# Altium integrated library Linear Technology Power Management uModule Regulators.IntLib: 166 symbols (part 35 of 67)
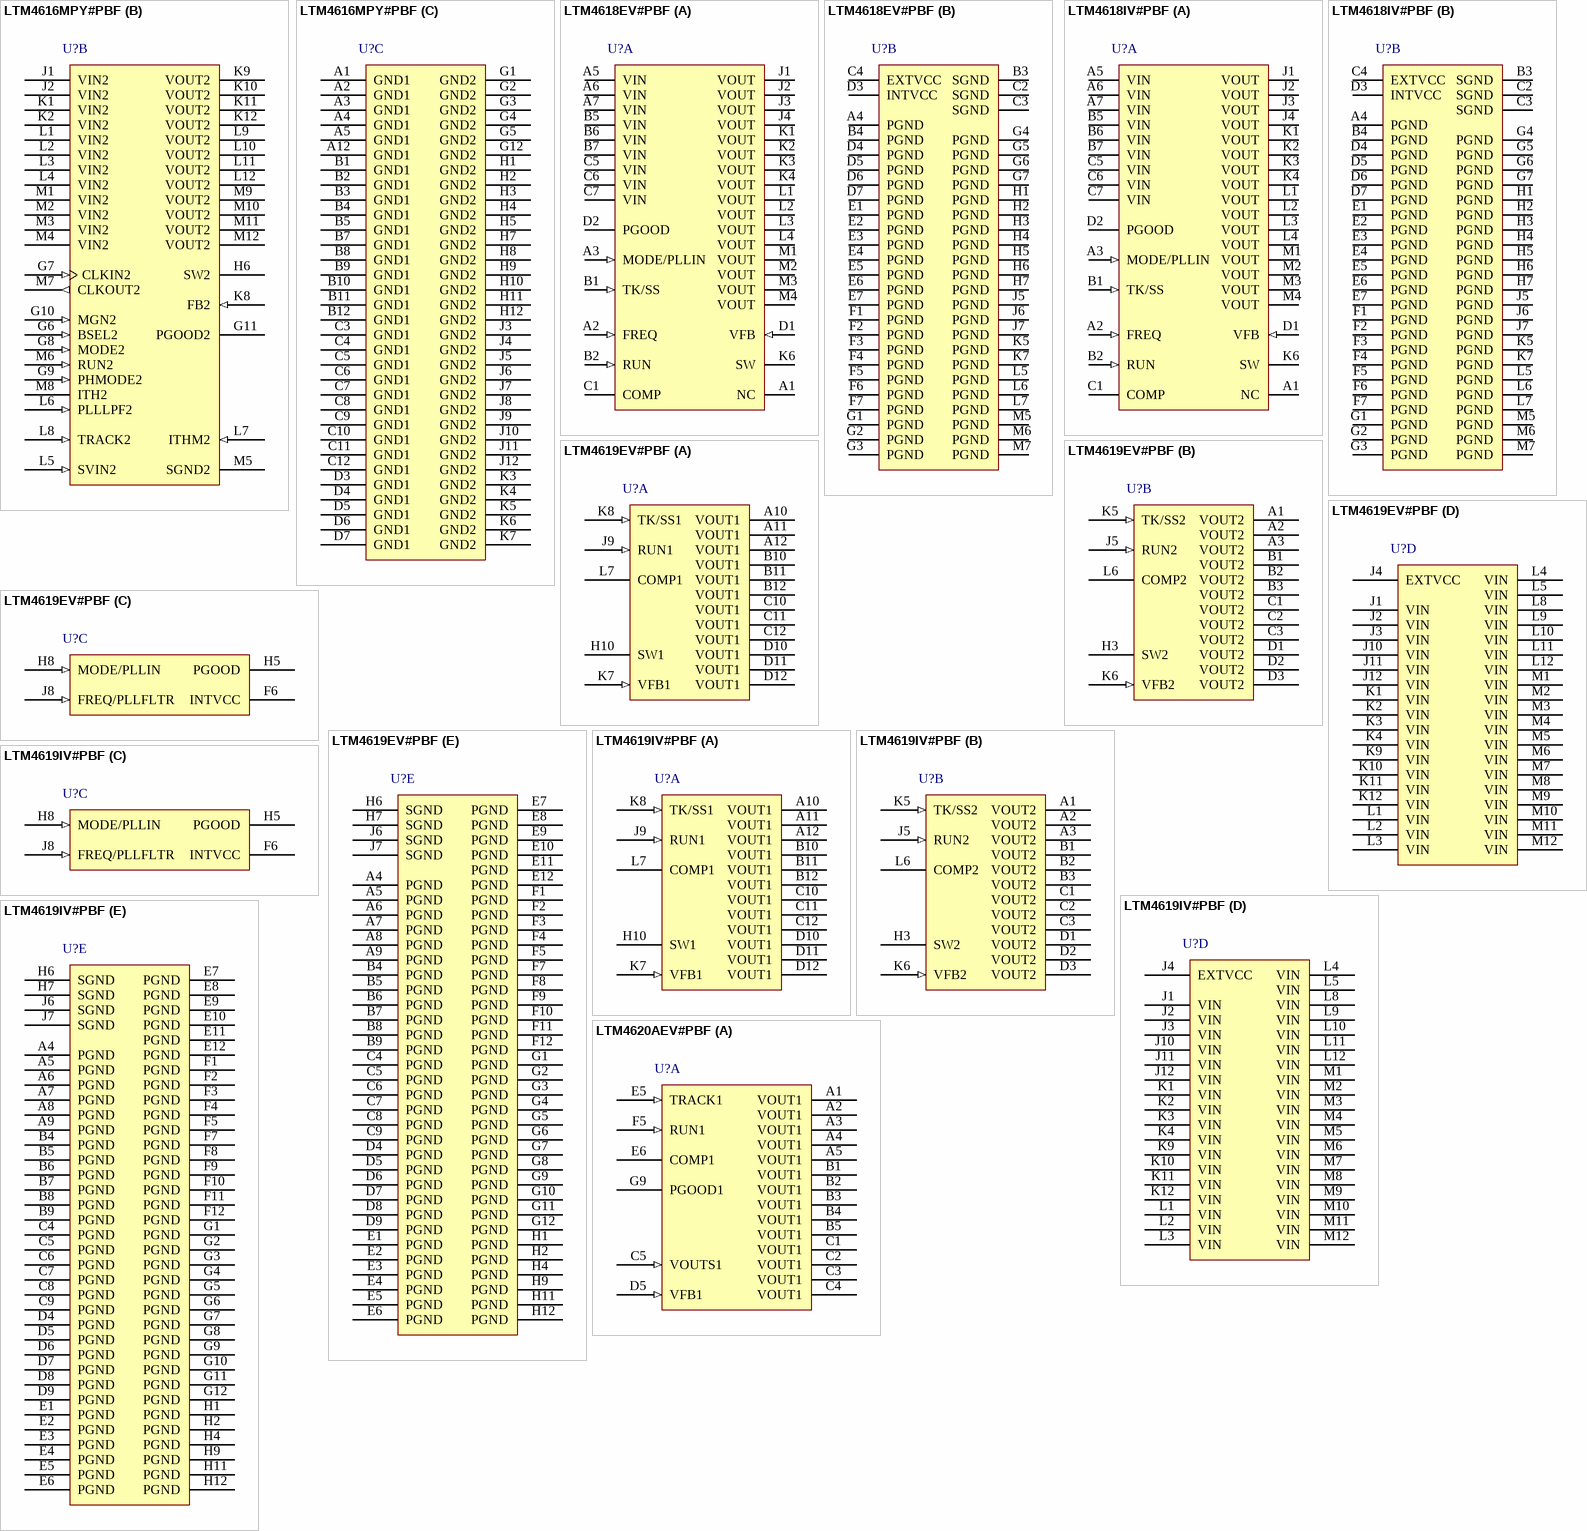
[diagram p61: symbols LTM4616MPY#PBF to LTM4620AEV#PBF]

## LTM4619EV#PBF
designator U?
Dual, 26 VIN, 4 A DC/DC uModule Regulator, 144-pin LGA, -40 to 125 degC, Pb-Free, Tray; Manufacturer: Linear Technology; PartNumber: LTM4619EV#PBF; Extended Temp: E, I; Frequency Sync Range: 250kHz - 780kHz; Frequency(kHz): 780; Ishutdown(uA): 40; Isupply(mA): 30; Number of Outputs: 2; Output Current(A): 4; Switch Current(A): 6; Synchronous: yes; Topology: Buck; Vin Max(V): 26.5; Vin Min(V): 4.5; Vout Max(V): 5; Vout Min(V): 0.8; DatasheetVersion: Rev. A; PackageVersion: Rev. C, 01/2013; PackageReference: LGA-144; PackageDescription: 144-Pin LGA, Body 15 x 15 mm, Pitch 1.27 mm; Supplier 1: Digi-Key; Supplier Part Number 1: LTM4619EV#PBF-ND; Supplier 2: Farnell; Supplier Part Number 2: 2115887; Supplier 3: Newark; Supplier Part Number 3: 68R7658; Packing: Tray; RoHS: TRUE; Tracking: yes; Mounting Technology: Surface Mount; Code_JEDEC: MS-028; ComponentLink1Description: Manufacturer URL; ComponentLink1URL: http://www.linear.com/; ComponentLink2Description: Datasheet; ComponentLink2URL: http://cds.linear.com/docs/en/datasheet/4619fa.pdf; ComponentLink3Description: Package Specification; ComponentLink3URL: http://cds.linear.com/docs/en/packaging/05081816_C_lga144.pdf
footprint LT-LGA-144-05-08-1816_V (LGA, 144-Leads, Body 15x15mm, Pitch 1.27mm)
part A pins: A10 VOUT1 (power) "Power Output Pins. Apply output load between these pins and PGND pins. Recommend placing output decoupling capacitance directly between these pins and PGND pins.", A11 VOUT1 (power) "Power Output Pins. Apply output load between these pins and PGND pins. Recommend placing output decoupling capacitance directly between these pins and PGND pins.", A12 VOUT1 (power) "Power Output Pins. Apply output load between these pins and PGND pins. Recommend placing output decoupling capacitance directly between these pins and PGND pins.", B10 VOUT1 (power) "Power Output Pins. Apply output load between these pins and PGND pins. Recommend placing output decoupling capacitance directly between these pins and PGND pins.", B11 VOUT1 (power) "Power Output Pins. Apply output load between these pins and PGND pins. Recommend placing output decoupling capacitance directly between these pins and PGND pins.", B12 VOUT1 (power) "Power Output Pins. Apply output load between these pins and PGND pins. Recommend placing output decoupling capacitance directly between these pins and PGND pins.", C10 VOUT1 (power) "Power Output Pins. Apply output load between these pins and PGND pins. Recommend placing output decoupling capacitance directly between these pins and PGND pins.", C11 VOUT1 (power) "Power Output Pins. Apply output load between these pins and PGND pins. Recommend placing output decoupling capacitance directly between these pins and PGND pins.", C12 VOUT1 (power) "Power Output Pins. Apply output load between these pins and PGND pins. Recommend placing output decoupling capacitance directly between these pins and PGND pins.", D10 VOUT1 (power) "Power Output Pins. Apply output load between these pins and PGND pins. Recommend placing output decoupling capacitance directly between these pins and PGND pins.", D11 VOUT1 (power) "Power Output Pins. Apply output load between these pins and PGND pins. Recommend placing output decoupling capacitance directly between these pins and PGND pins.", D12 VOUT1 (power) "Power Output Pins. Apply output load between these pins and PGND pins. Recommend placing output decoupling capacitance directly between these pins and PGND pins.", H10 SW1 "Switching Test Pins. These pins are provided externally to check the operation frequency.", J9 RUN1 (in) "Run Control Pins. 0.5uA pull-up currents on these pins turn on the module if these pins are floating. Forcing either of these pins below 1.2V will shut down the corresponding outputs. An additional 4.5uA pull-up current is (See Datasheet)", K7 VFB1 (in) "The negative input of the error amplifier. Internally, this pin is connected to VOUT with a 60.4k precision resistor. Different output voltages can be programmed with an additional resistor between VFB and SGND pins. See the (See Datasheet)", K8 TK/SS1 (in), L7 COMP1 "Current Control Threshold and Error Amplifier Compensation Point. The module has been internally compensated for most I/O ranges."
part B pins: A1 VOUT2 (power) "Power Output Pins. Apply output load between these pins and PGND pins. Recommend placing output decoupling capacitance directly between these pins and PGND pins.", A2 VOUT2 (power) "Power Output Pins. Apply output load between these pins and PGND pins. Recommend placing output decoupling capacitance directly between these pins and PGND pins.", A3 VOUT2 (power) "Power Output Pins. Apply output load between these pins and PGND pins. Recommend placing output decoupling capacitance directly between these pins and PGND pins.", B1 VOUT2 (power) "Power Output Pins. Apply output load between these pins and PGND pins. Recommend placing output decoupling capacitance directly between these pins and PGND pins.", B2 VOUT2 (power) "Power Output Pins. Apply output load between these pins and PGND pins. Recommend placing output decoupling capacitance directly between these pins and PGND pins.", B3 VOUT2 (power) "Power Output Pins. Apply output load between these pins and PGND pins. Recommend placing output decoupling capacitance directly between these pins and PGND pins.", C1 VOUT2 (power) "Power Output Pins. Apply output load between these pins and PGND pins. Recommend placing output decoupling capacitance directly between these pins and PGND pins.", C2 VOUT2 (power) "Power Output Pins. Apply output load between these pins and PGND pins. Recommend placing output decoupling capacitance directly between these pins and PGND pins.", C3 VOUT2 (power) "Power Output Pins. Apply output load between these pins and PGND pins. Recommend placing output decoupling capacitance directly between these pins and PGND pins.", D1 VOUT2 (power) "Power Output Pins. Apply output load between these pins and PGND pins. Recommend placing output decoupling capacitance directly between these pins and PGND pins.", D2 VOUT2 (power) "Power Output Pins. Apply output load between these pins and PGND pins. Recommend placing output decoupling capacitance directly between these pins and PGND pins.", D3 VOUT2 (power) "Power Output Pins. Apply output load between these pins and PGND pins. Recommend placing output decoupling capacitance directly between these pins and PGND pins.", H3 SW2 "Switching Test Pins. These pins are provided externally to check the operation frequency.", J5 RUN2 (in) "Run Control Pins. 0.5uA pull-up currents on these pins turn on the module if these pins are floating. Forcing either of these pins below 1.2V will shut down the corresponding outputs. An additional 4.5uA pull-up current is (See Datasheet)", K5 TK/SS2 (in), K6 VFB2 (in) "The negative input of the error amplifier. Internally, this pin is connected to VOUT with a 60.4k precision resistor. Different output voltages can be programmed with an additional resistor between VFB and SGND pins. See the (See Datasheet)", L6 COMP2 "Current Control Threshold and Error Amplifier Compensation Point. The module has been internally compensated for most I/O ranges."
part C pins: F6 INTVCC (power) "Internal 5V Regulator Output. This pin is for additional decoupling of the 5V internal regulator.", H5 PGOOD (oc) "Output Voltage Power Good Indicator. Open drain logic output that is pulled to ground when the output voltage is not within +/-7.5% of the regulation point.", H8 MODE/PLLIN (in), J8 FREQ/PLLFLTR (in)
part D pins: J1 VIN (power) "Power Input Pins. Apply input voltage between these pins and PGND pins. Recommend placing input decoupling capacitance directly between VIN pins and PGND pins. For VIN < 5.5, tie VIN and INTVCC together.", J2 VIN (power) "Power Input Pins. Apply input voltage between these pins and PGND pins. Recommend placing input decoupling capacitance directly between VIN pins and PGND pins. For VIN < 5.5, tie VIN and INTVCC together.", J3 VIN (power) "Power Input Pins. Apply input voltage between these pins and PGND pins. Recommend placing input decoupling capacitance directly between VIN pins and PGND pins. For VIN < 5.5, tie VIN and INTVCC together.", J4 EXTVCC (power) "External Power Input to Controller. When EXTVCC is higher than 4.7V, the internal 5V regulator is disabled and external power supplies current to reduce the power dissipation in the module. This will improve the efficiency (See Datasheet)", J10 VIN (power) "Power Input Pins. Apply input voltage between these pins and PGND pins. Recommend placing input decoupling capacitance directly between VIN pins and PGND pins. For VIN < 5.5, tie VIN and INTVCC together.", J11 VIN (power) "Power Input Pins. Apply input voltage between these pins and PGND pins. Recommend placing input decoupling capacitance directly between VIN pins and PGND pins. For VIN < 5.5, tie VIN and INTVCC together.", J12 VIN (power) "Power Input Pins. Apply input voltage between these pins and PGND pins. Recommend placing input decoupling capacitance directly between VIN pins and PGND pins. For VIN < 5.5, tie VIN and INTVCC together.", K1 VIN (power) "Power Input Pins. Apply input voltage between these pins and PGND pins. Recommend placing input decoupling capacitance directly between VIN pins and PGND pins. For VIN < 5.5, tie VIN and INTVCC together.", K2 VIN (power) "Power Input Pins. Apply input voltage between these pins and PGND pins. Recommend placing input decoupling capacitance directly between VIN pins and PGND pins. For VIN < 5.5, tie VIN and INTVCC together.", K3 VIN (power) "Power Input Pins. Apply input voltage between these pins and PGND pins. Recommend placing input decoupling capacitance directly between VIN pins and PGND pins. For VIN < 5.5, tie VIN and INTVCC together.", K4 VIN (power) "Power Input Pins. Apply input voltage between these pins and PGND pins. Recommend placing input decoupling capacitance directly between VIN pins and PGND pins. For VIN < 5.5, tie VIN and INTVCC together.", K9 VIN (power) "Power Input Pins. Apply input voltage between these pins and PGND pins. Recommend placing input decoupling capacitance directly between VIN pins and PGND pins. For VIN < 5.5, tie VIN and INTVCC together.", K10 VIN (power) "Power Input Pins. Apply input voltage between these pins and PGND pins. Recommend placing input decoupling capacitance directly between VIN pins and PGND pins. For VIN < 5.5, tie VIN and INTVCC together.", K11 VIN (power) "Power Input Pins. Apply input voltage between these pins and PGND pins. Recommend placing input decoupling capacitance directly between VIN pins and PGND pins. For VIN < 5.5, tie VIN and INTVCC together.", K12 VIN (power) "Power Input Pins. Apply input voltage between these pins and PGND pins. Recommend placing input decoupling capacitance directly between VIN pins and PGND pins. For VIN < 5.5, tie VIN and INTVCC together.", L1 VIN (power) "Power Input Pins. Apply input voltage between these pins and PGND pins. Recommend placing input decoupling capacitance directly between VIN pins and PGND pins. For VIN < 5.5, tie VIN and INTVCC together.", L2 VIN (power) "Power Input Pins. Apply input voltage between these pins and PGND pins. Recommend placing input decoupling capacitance directly between VIN pins and PGND pins. For VIN < 5.5, tie VIN and INTVCC together.", L3 VIN (power) "Power Input Pins. Apply input voltage between these pins and PGND pins. Recommend placing input decoupling capacitance directly between VIN pins and PGND pins. For VIN < 5.5, tie VIN and INTVCC together.", L4 VIN (power) "Power Input Pins. Apply input voltage between these pins and PGND pins. Recommend placing input decoupling capacitance directly between VIN pins and PGND pins. For VIN < 5.5, tie VIN and INTVCC together.", L5 VIN (power) "Power Input Pins. Apply input voltage between these pins and PGND pins. Recommend placing input decoupling capacitance directly between VIN pins and PGND pins. For VIN < 5.5, tie VIN and INTVCC together.", L8 VIN (power) "Power Input Pins. Apply input voltage between these pins and PGND pins. Recommend placing input decoupling capacitance directly between VIN pins and PGND pins. For VIN < 5.5, tie VIN and INTVCC together.", L9 VIN (power) "Power Input Pins. Apply input voltage between these pins and PGND pins. Recommend placing input decoupling capacitance directly between VIN pins and PGND pins. For VIN < 5.5, tie VIN and INTVCC together.", L10 VIN (power) "Power Input Pins. Apply input voltage between these pins and PGND pins. Recommend placing input decoupling capacitance directly between VIN pins and PGND pins. For VIN < 5.5, tie VIN and INTVCC together.", L11 VIN (power) "Power Input Pins. Apply input voltage between these pins and PGND pins. Recommend placing input decoupling capacitance directly between VIN pins and PGND pins. For VIN < 5.5, tie VIN and INTVCC together.", L12 VIN (power) "Power Input Pins. Apply input voltage between these pins and PGND pins. Recommend placing input decoupling capacitance directly between VIN pins and PGND pins. For VIN < 5.5, tie VIN and INTVCC together.", M1 VIN (power) "Power Input Pins. Apply input voltage between these pins and PGND pins. Recommend placing input decoupling capacitance directly between VIN pins and PGND pins. For VIN < 5.5, tie VIN and INTVCC together.", M2 VIN (power) "Power Input Pins. Apply input voltage between these pins and PGND pins. Recommend placing input decoupling capacitance directly between VIN pins and PGND pins. For VIN < 5.5, tie VIN and INTVCC together.", M3 VIN (power) "Power Input Pins. Apply input voltage between these pins and PGND pins. Recommend placing input decoupling capacitance directly between VIN pins and PGND pins. For VIN < 5.5, tie VIN and INTVCC together.", M4 VIN (power) "Power Input Pins. Apply input voltage between these pins and PGND pins. Recommend placing input decoupling capacitance directly between VIN pins and PGND pins. For VIN < 5.5, tie VIN and INTVCC together.", M5 VIN (power) "Power Input Pins. Apply input voltage between these pins and PGND pins. Recommend placing input decoupling capacitance directly between VIN pins and PGND pins. For VIN < 5.5, tie VIN and INTVCC together.", M6 VIN (power) "Power Input Pins. Apply input voltage between these pins and PGND pins. Recommend placing input decoupling capacitance directly between VIN pins and PGND pins. For VIN < 5.5, tie VIN and INTVCC together.", M7 VIN (power) "Power Input Pins. Apply input voltage between these pins and PGND pins. Recommend placing input decoupling capacitance directly between VIN pins and PGND pins. For VIN < 5.5, tie VIN and INTVCC together.", M8 VIN (power) "Power Input Pins. Apply input voltage between these pins and PGND pins. Recommend placing input decoupling capacitance directly between VIN pins and PGND pins. For VIN < 5.5, tie VIN and INTVCC together.", M9 VIN (power) "Power Input Pins. Apply input voltage between these pins and PGND pins. Recommend placing input decoupling capacitance directly between VIN pins and PGND pins. For VIN < 5.5, tie VIN and INTVCC together.", M10 VIN (power) "Power Input Pins. Apply input voltage between these pins and PGND pins. Recommend placing input decoupling capacitance directly between VIN pins and PGND pins. For VIN < 5.5, tie VIN and INTVCC together.", M11 VIN (power) "Power Input Pins. Apply input voltage between these pins and PGND pins. Recommend placing input decoupling capacitance directly between VIN pins and PGND pins. For VIN < 5.5, tie VIN and INTVCC together.", M12 VIN (power) "Power Input Pins. Apply input voltage between these pins and PGND pins. Recommend placing input decoupling capacitance directly between VIN pins and PGND pins. For VIN < 5.5, tie VIN and INTVCC together."
part E pins: A4 PGND (power) "Power ground pins for both input and output returns.", A5 PGND (power) "Power ground pins for both input and output returns.", A6 PGND (power) "Power ground pins for both input and output returns.", A7 PGND (power) "Power ground pins for both input and output returns.", A8 PGND (power) "Power ground pins for both input and output returns.", A9 PGND (power) "Power ground pins for both input and output returns.", B4 PGND (power) "Power ground pins for both input and output returns.", B5 PGND (power) "Power ground pins for both input and output returns.", B6 PGND (power) "Power ground pins for both input and output returns.", B7 PGND (power) "Power ground pins for both input and output returns.", B8 PGND (power) "Power ground pins for both input and output returns.", B9 PGND (power) "Power ground pins for both input and output returns.", C4 PGND (power) "Power ground pins for both input and output returns.", C5 PGND (power) "Power ground pins for both input and output returns.", C6 PGND (power) "Power ground pins for both input and output returns.", C7 PGND (power) "Power ground pins for both input and output returns.", C8 PGND (power) "Power ground pins for both input and output returns.", C9 PGND (power) "Power ground pins for both input and output returns.", D4 PGND (power) "Power ground pins for both input and output returns.", D5 PGND (power) "Power ground pins for both input and output returns.", D6 PGND (power) "Power ground pins for both input and output returns.", D7 PGND (power) "Power ground pins for both input and output returns.", D8 PGND (power) "Power ground pins for both input and output returns.", D9 PGND (power) "Power ground pins for both input and output returns.", E1 PGND (power) "Power ground pins for both input and output returns.", E2 PGND (power) "Power ground pins for both input and output returns.", E3 PGND (power) "Power ground pins for both input and output returns.", E4 PGND (power) "Power ground pins for both input and output returns.", E5 PGND (power) "Power ground pins for both input and output returns.", E6 PGND (power) "Power ground pins for both input and output returns.", E7 PGND (power) "Power ground pins for both input and output returns.", E8 PGND (power) "Power ground pins for both input and output returns.", E9 PGND (power) "Power ground pins for both input and output returns.", E10 PGND (power) "Power ground pins for both input and output returns.", E11 PGND (power) "Power ground pins for both input and output returns.", E12 PGND (power) "Power ground pins for both input and output returns.", F1 PGND (power) "Power ground pins for both input and output returns.", F2 PGND (power) "Power ground pins for both input and output returns.", F3 PGND (power) "Power ground pins for both input and output returns.", F4 PGND (power) "Power ground pins for both input and output returns.", F5 PGND (power) "Power ground pins for both input and output returns.", F7 PGND (power) "Power ground pins for both input and output returns.", F8 PGND (power) "Power ground pins for both input and output returns.", F9 PGND (power) "Power ground pins for both input and output returns.", F10 PGND (power) "Power ground pins for both input and output returns.", F11 PGND (power) "Power ground pins for both input and output returns.", F12 PGND (power) "Power ground pins for both input and output returns.", G1 PGND (power) "Power ground pins for both input and output returns.", G2 PGND (power) "Power ground pins for both input and output returns.", G3 PGND (power) "Power ground pins for both input and output returns.", G4 PGND (power) "Power ground pins for both input and output returns.", G5 PGND (power) "Power ground pins for both input and output returns.", G6 PGND (power) "Power ground pins for both input and output returns.", G7 PGND (power) "Power ground pins for both input and output returns.", G8 PGND (power) "Power ground pins for both input and output returns.", G9 PGND (power) "Power ground pins for both input and output returns.", G10 PGND (power) "Power ground pins for both input and output returns.", G11 PGND (power) "Power ground pins for both input and output returns.", G12 PGND (power) "Power ground pins for both input and output returns.", H1 PGND (power) "Power ground pins for both input and output returns.", H2 PGND (power) "Power ground pins for both input and output returns.", H4 PGND (power) "Power ground pins for both input and output returns.", H6 SGND (power) "Signal Ground Pin. Return ground path for all analog and low power circuitry. Tie a single connection to PGND in the application.", H7 SGND (power) "Signal Ground Pin. Return ground path for all analog and low power circuitry. Tie a single connection to PGND in the application.", H9 PGND (power) "Power ground pins for both input and output returns.", H11 PGND (power) "Power ground pins for both input and output returns.", H12 PGND (power) "Power ground pins for both input and output returns.", J6 SGND (power) "Signal Ground Pin. Return ground path for all analog and low power circuitry. Tie a single connection to PGND in the application.", J7 SGND (power) "Signal Ground Pin. Return ground path for all analog and low power circuitry. Tie a single connection to PGND in the application."

## LTM4619IV#PBF
designator U?
Dual, 26 VIN, 4 A DC/DC uModule Regulator, 144-pin LGA, -40 to 125 degC, Pb-Free, Tray; Manufacturer: Linear Technology; PartNumber: LTM4619IV#PBF; Extended Temp: E, I; Frequency Sync Range: 250kHz - 780kHz; Frequency(kHz): 780; Ishutdown(uA): 40; Isupply(mA): 30; Number of Outputs: 2; Output Current(A): 4; Switch Current(A): 6; Synchronous: yes; Topology: Buck; Vin Max(V): 26.5; Vin Min(V): 4.5; Vout Max(V): 5; Vout Min(V): 0.8; DatasheetVersion: Rev. A; PackageVersion: Rev. C, 01/2013; PackageReference: LGA-144; PackageDescription: 144-Pin LGA, Body 15 x 15 mm, Pitch 1.27 mm; Supplier 1: Digi-Key; Supplier Part Number 1: LTM4619IV#PBF-ND; Supplier 2: Farnell; Supplier Part Number 2: 2115889; Supplier 3: Newark; Supplier Part Number 3: 68R7659; Packing: Tray; RoHS: TRUE; Tracking: yes; Mounting Technology: Surface Mount; Code_JEDEC: MS-028; ComponentLink1Description: Manufacturer URL; ComponentLink1URL: http://www.linear.com/; ComponentLink2Description: Datasheet; ComponentLink2URL: http://cds.linear.com/docs/en/datasheet/4619fa.pdf; ComponentLink3Description: Package Specification; ComponentLink3URL: http://cds.linear.com/docs/en/packaging/05081816_C_lga144.pdf
footprint LT-LGA-144-05-08-1816_V (LGA, 144-Leads, Body 15x15mm, Pitch 1.27mm)
part A pins: A10 VOUT1 (power) "Power Output Pins. Apply output load between these pins and PGND pins. Recommend placing output decoupling capacitance directly between these pins and PGND pins.", A11 VOUT1 (power) "Power Output Pins. Apply output load between these pins and PGND pins. Recommend placing output decoupling capacitance directly between these pins and PGND pins.", A12 VOUT1 (power) "Power Output Pins. Apply output load between these pins and PGND pins. Recommend placing output decoupling capacitance directly between these pins and PGND pins.", B10 VOUT1 (power) "Power Output Pins. Apply output load between these pins and PGND pins. Recommend placing output decoupling capacitance directly between these pins and PGND pins.", B11 VOUT1 (power) "Power Output Pins. Apply output load between these pins and PGND pins. Recommend placing output decoupling capacitance directly between these pins and PGND pins.", B12 VOUT1 (power) "Power Output Pins. Apply output load between these pins and PGND pins. Recommend placing output decoupling capacitance directly between these pins and PGND pins.", C10 VOUT1 (power) "Power Output Pins. Apply output load between these pins and PGND pins. Recommend placing output decoupling capacitance directly between these pins and PGND pins.", C11 VOUT1 (power) "Power Output Pins. Apply output load between these pins and PGND pins. Recommend placing output decoupling capacitance directly between these pins and PGND pins.", C12 VOUT1 (power) "Power Output Pins. Apply output load between these pins and PGND pins. Recommend placing output decoupling capacitance directly between these pins and PGND pins.", D10 VOUT1 (power) "Power Output Pins. Apply output load between these pins and PGND pins. Recommend placing output decoupling capacitance directly between these pins and PGND pins.", D11 VOUT1 (power) "Power Output Pins. Apply output load between these pins and PGND pins. Recommend placing output decoupling capacitance directly between these pins and PGND pins.", D12 VOUT1 (power) "Power Output Pins. Apply output load between these pins and PGND pins. Recommend placing output decoupling capacitance directly between these pins and PGND pins.", H10 SW1 "Switching Test Pins. These pins are provided externally to check the operation frequency.", J9 RUN1 (in) "Run Control Pins. 0.5uA pull-up currents on these pins turn on the module if these pins are floating. Forcing either of these pins below 1.2V will shut down the corresponding outputs. An additional 4.5uA pull-up current is (See Datasheet)", K7 VFB1 (in) "The negative input of the error amplifier. Internally, this pin is connected to VOUT with a 60.4k precision resistor. Different output voltages can be programmed with an additional resistor between VFB and SGND pins. See the (See Datasheet)", K8 TK/SS1 (in), L7 COMP1 "Current Control Threshold and Error Amplifier Compensation Point. The module has been internally compensated for most I/O ranges."
part B pins: A1 VOUT2 (power) "Power Output Pins. Apply output load between these pins and PGND pins. Recommend placing output decoupling capacitance directly between these pins and PGND pins.", A2 VOUT2 (power) "Power Output Pins. Apply output load between these pins and PGND pins. Recommend placing output decoupling capacitance directly between these pins and PGND pins.", A3 VOUT2 (power) "Power Output Pins. Apply output load between these pins and PGND pins. Recommend placing output decoupling capacitance directly between these pins and PGND pins.", B1 VOUT2 (power) "Power Output Pins. Apply output load between these pins and PGND pins. Recommend placing output decoupling capacitance directly between these pins and PGND pins.", B2 VOUT2 (power) "Power Output Pins. Apply output load between these pins and PGND pins. Recommend placing output decoupling capacitance directly between these pins and PGND pins.", B3 VOUT2 (power) "Power Output Pins. Apply output load between these pins and PGND pins. Recommend placing output decoupling capacitance directly between these pins and PGND pins.", C1 VOUT2 (power) "Power Output Pins. Apply output load between these pins and PGND pins. Recommend placing output decoupling capacitance directly between these pins and PGND pins.", C2 VOUT2 (power) "Power Output Pins. Apply output load between these pins and PGND pins. Recommend placing output decoupling capacitance directly between these pins and PGND pins.", C3 VOUT2 (power) "Power Output Pins. Apply output load between these pins and PGND pins. Recommend placing output decoupling capacitance directly between these pins and PGND pins.", D1 VOUT2 (power) "Power Output Pins. Apply output load between these pins and PGND pins. Recommend placing output decoupling capacitance directly between these pins and PGND pins.", D2 VOUT2 (power) "Power Output Pins. Apply output load between these pins and PGND pins. Recommend placing output decoupling capacitance directly between these pins and PGND pins.", D3 VOUT2 (power) "Power Output Pins. Apply output load between these pins and PGND pins. Recommend placing output decoupling capacitance directly between these pins and PGND pins.", H3 SW2 "Switching Test Pins. These pins are provided externally to check the operation frequency.", J5 RUN2 (in) "Run Control Pins. 0.5uA pull-up currents on these pins turn on the module if these pins are floating. Forcing either of these pins below 1.2V will shut down the corresponding outputs. An additional 4.5uA pull-up current is (See Datasheet)", K5 TK/SS2 (in), K6 VFB2 (in) "The negative input of the error amplifier. Internally, this pin is connected to VOUT with a 60.4k precision resistor. Different output voltages can be programmed with an additional resistor between VFB and SGND pins. See the (See Datasheet)", L6 COMP2 "Current Control Threshold and Error Amplifier Compensation Point. The module has been internally compensated for most I/O ranges."
part C pins: F6 INTVCC (power) "Internal 5V Regulator Output. This pin is for additional decoupling of the 5V internal regulator.", H5 PGOOD (oc) "Output Voltage Power Good Indicator. Open drain logic output that is pulled to ground when the output voltage is not within +/-7.5% of the regulation point.", H8 MODE/PLLIN (in), J8 FREQ/PLLFLTR (in)
part D pins: J1 VIN (power) "Power Input Pins. Apply input voltage between these pins and PGND pins. Recommend placing input decoupling capacitance directly between VIN pins and PGND pins. For VIN < 5.5, tie VIN and INTVCC together.", J2 VIN (power) "Power Input Pins. Apply input voltage between these pins and PGND pins. Recommend placing input decoupling capacitance directly between VIN pins and PGND pins. For VIN < 5.5, tie VIN and INTVCC together.", J3 VIN (power) "Power Input Pins. Apply input voltage between these pins and PGND pins. Recommend placing input decoupling capacitance directly between VIN pins and PGND pins. For VIN < 5.5, tie VIN and INTVCC together.", J4 EXTVCC (power) "External Power Input to Controller. When EXTVCC is higher than 4.7V, the internal 5V regulator is disabled and external power supplies current to reduce the power dissipation in the module. This will improve the efficiency (See Datasheet)", J10 VIN (power) "Power Input Pins. Apply input voltage between these pins and PGND pins. Recommend placing input decoupling capacitance directly between VIN pins and PGND pins. For VIN < 5.5, tie VIN and INTVCC together.", J11 VIN (power) "Power Input Pins. Apply input voltage between these pins and PGND pins. Recommend placing input decoupling capacitance directly between VIN pins and PGND pins. For VIN < 5.5, tie VIN and INTVCC together.", J12 VIN (power) "Power Input Pins. Apply input voltage between these pins and PGND pins. Recommend placing input decoupling capacitance directly between VIN pins and PGND pins. For VIN < 5.5, tie VIN and INTVCC together.", K1 VIN (power) "Power Input Pins. Apply input voltage between these pins and PGND pins. Recommend placing input decoupling capacitance directly between VIN pins and PGND pins. For VIN < 5.5, tie VIN and INTVCC together.", K2 VIN (power) "Power Input Pins. Apply input voltage between these pins and PGND pins. Recommend placing input decoupling capacitance directly between VIN pins and PGND pins. For VIN < 5.5, tie VIN and INTVCC together.", K3 VIN (power) "Power Input Pins. Apply input voltage between these pins and PGND pins. Recommend placing input decoupling capacitance directly between VIN pins and PGND pins. For VIN < 5.5, tie VIN and INTVCC together.", K4 VIN (power) "Power Input Pins. Apply input voltage between these pins and PGND pins. Recommend placing input decoupling capacitance directly between VIN pins and PGND pins. For VIN < 5.5, tie VIN and INTVCC together.", K9 VIN (power) "Power Input Pins. Apply input voltage between these pins and PGND pins. Recommend placing input decoupling capacitance directly between VIN pins and PGND pins. For VIN < 5.5, tie VIN and INTVCC together.", K10 VIN (power) "Power Input Pins. Apply input voltage between these pins and PGND pins. Recommend placing input decoupling capacitance directly between VIN pins and PGND pins. For VIN < 5.5, tie VIN and INTVCC together.", K11 VIN (power) "Power Input Pins. Apply input voltage between these pins and PGND pins. Recommend placing input decoupling capacitance directly between VIN pins and PGND pins. For VIN < 5.5, tie VIN and INTVCC together.", K12 VIN (power) "Power Input Pins. Apply input voltage between these pins and PGND pins. Recommend placing input decoupling capacitance directly between VIN pins and PGND pins. For VIN < 5.5, tie VIN and INTVCC together.", L1 VIN (power) "Power Input Pins. Apply input voltage between these pins and PGND pins. Recommend placing input decoupling capacitance directly between VIN pins and PGND pins. For VIN < 5.5, tie VIN and INTVCC together.", L2 VIN (power) "Power Input Pins. Apply input voltage between these pins and PGND pins. Recommend placing input decoupling capacitance directly between VIN pins and PGND pins. For VIN < 5.5, tie VIN and INTVCC together.", L3 VIN (power) "Power Input Pins. Apply input voltage between these pins and PGND pins. Recommend placing input decoupling capacitance directly between VIN pins and PGND pins. For VIN < 5.5, tie VIN and INTVCC together.", L4 VIN (power) "Power Input Pins. Apply input voltage between these pins and PGND pins. Recommend placing input decoupling capacitance directly between VIN pins and PGND pins. For VIN < 5.5, tie VIN and INTVCC together.", L5 VIN (power) "Power Input Pins. Apply input voltage between these pins and PGND pins. Recommend placing input decoupling capacitance directly between VIN pins and PGND pins. For VIN < 5.5, tie VIN and INTVCC together.", L8 VIN (power) "Power Input Pins. Apply input voltage between these pins and PGND pins. Recommend placing input decoupling capacitance directly between VIN pins and PGND pins. For VIN < 5.5, tie VIN and INTVCC together.", L9 VIN (power) "Power Input Pins. Apply input voltage between these pins and PGND pins. Recommend placing input decoupling capacitance directly between VIN pins and PGND pins. For VIN < 5.5, tie VIN and INTVCC together.", L10 VIN (power) "Power Input Pins. Apply input voltage between these pins and PGND pins. Recommend placing input decoupling capacitance directly between VIN pins and PGND pins. For VIN < 5.5, tie VIN and INTVCC together.", L11 VIN (power) "Power Input Pins. Apply input voltage between these pins and PGND pins. Recommend placing input decoupling capacitance directly between VIN pins and PGND pins. For VIN < 5.5, tie VIN and INTVCC together.", L12 VIN (power) "Power Input Pins. Apply input voltage between these pins and PGND pins. Recommend placing input decoupling capacitance directly between VIN pins and PGND pins. For VIN < 5.5, tie VIN and INTVCC together.", M1 VIN (power) "Power Input Pins. Apply input voltage between these pins and PGND pins. Recommend placing input decoupling capacitance directly between VIN pins and PGND pins. For VIN < 5.5, tie VIN and INTVCC together.", M2 VIN (power) "Power Input Pins. Apply input voltage between these pins and PGND pins. Recommend placing input decoupling capacitance directly between VIN pins and PGND pins. For VIN < 5.5, tie VIN and INTVCC together.", M3 VIN (power) "Power Input Pins. Apply input voltage between these pins and PGND pins. Recommend placing input decoupling capacitance directly between VIN pins and PGND pins. For VIN < 5.5, tie VIN and INTVCC together.", M4 VIN (power) "Power Input Pins. Apply input voltage between these pins and PGND pins. Recommend placing input decoupling capacitance directly between VIN pins and PGND pins. For VIN < 5.5, tie VIN and INTVCC together.", M5 VIN (power) "Power Input Pins. Apply input voltage between these pins and PGND pins. Recommend placing input decoupling capacitance directly between VIN pins and PGND pins. For VIN < 5.5, tie VIN and INTVCC together.", M6 VIN (power) "Power Input Pins. Apply input voltage between these pins and PGND pins. Recommend placing input decoupling capacitance directly between VIN pins and PGND pins. For VIN < 5.5, tie VIN and INTVCC together.", M7 VIN (power) "Power Input Pins. Apply input voltage between these pins and PGND pins. Recommend placing input decoupling capacitance directly between VIN pins and PGND pins. For VIN < 5.5, tie VIN and INTVCC together.", M8 VIN (power) "Power Input Pins. Apply input voltage between these pins and PGND pins. Recommend placing input decoupling capacitance directly between VIN pins and PGND pins. For VIN < 5.5, tie VIN and INTVCC together.", M9 VIN (power) "Power Input Pins. Apply input voltage between these pins and PGND pins. Recommend placing input decoupling capacitance directly between VIN pins and PGND pins. For VIN < 5.5, tie VIN and INTVCC together.", M10 VIN (power) "Power Input Pins. Apply input voltage between these pins and PGND pins. Recommend placing input decoupling capacitance directly between VIN pins and PGND pins. For VIN < 5.5, tie VIN and INTVCC together.", M11 VIN (power) "Power Input Pins. Apply input voltage between these pins and PGND pins. Recommend placing input decoupling capacitance directly between VIN pins and PGND pins. For VIN < 5.5, tie VIN and INTVCC together.", M12 VIN (power) "Power Input Pins. Apply input voltage between these pins and PGND pins. Recommend placing input decoupling capacitance directly between VIN pins and PGND pins. For VIN < 5.5, tie VIN and INTVCC together."
part E pins: A4 PGND (power) "Power ground pins for both input and output returns.", A5 PGND (power) "Power ground pins for both input and output returns.", A6 PGND (power) "Power ground pins for both input and output returns.", A7 PGND (power) "Power ground pins for both input and output returns.", A8 PGND (power) "Power ground pins for both input and output returns.", A9 PGND (power) "Power ground pins for both input and output returns.", B4 PGND (power) "Power ground pins for both input and output returns.", B5 PGND (power) "Power ground pins for both input and output returns.", B6 PGND (power) "Power ground pins for both input and output returns.", B7 PGND (power) "Power ground pins for both input and output returns.", B8 PGND (power) "Power ground pins for both input and output returns.", B9 PGND (power) "Power ground pins for both input and output returns.", C4 PGND (power) "Power ground pins for both input and output returns.", C5 PGND (power) "Power ground pins for both input and output returns.", C6 PGND (power) "Power ground pins for both input and output returns.", C7 PGND (power) "Power ground pins for both input and output returns.", C8 PGND (power) "Power ground pins for both input and output returns.", C9 PGND (power) "Power ground pins for both input and output returns.", D4 PGND (power) "Power ground pins for both input and output returns.", D5 PGND (power) "Power ground pins for both input and output returns.", D6 PGND (power) "Power ground pins for both input and output returns.", D7 PGND (power) "Power ground pins for both input and output returns.", D8 PGND (power) "Power ground pins for both input and output returns.", D9 PGND (power) "Power ground pins for both input and output returns.", E1 PGND (power) "Power ground pins for both input and output returns.", E2 PGND (power) "Power ground pins for both input and output returns.", E3 PGND (power) "Power ground pins for both input and output returns.", E4 PGND (power) "Power ground pins for both input and output returns.", E5 PGND (power) "Power ground pins for both input and output returns.", E6 PGND (power) "Power ground pins for both input and output returns.", E7 PGND (power) "Power ground pins for both input and output returns.", E8 PGND (power) "Power ground pins for both input and output returns.", E9 PGND (power) "Power ground pins for both input and output returns.", E10 PGND (power) "Power ground pins for both input and output returns.", E11 PGND (power) "Power ground pins for both input and output returns.", E12 PGND (power) "Power ground pins for both input and output returns.", F1 PGND (power) "Power ground pins for both input and output returns.", F2 PGND (power) "Power ground pins for both input and output returns.", F3 PGND (power) "Power ground pins for both input and output returns.", F4 PGND (power) "Power ground pins for both input and output returns.", F5 PGND (power) "Power ground pins for both input and output returns.", F7 PGND (power) "Power ground pins for both input and output returns.", F8 PGND (power) "Power ground pins for both input and output returns.", F9 PGND (power) "Power ground pins for both input and output returns.", F10 PGND (power) "Power ground pins for both input and output returns.", F11 PGND (power) "Power ground pins for both input and output returns.", F12 PGND (power) "Power ground pins for both input and output returns.", G1 PGND (power) "Power ground pins for both input and output returns.", G2 PGND (power) "Power ground pins for both input and output returns.", G3 PGND (power) "Power ground pins for both input and output returns.", G4 PGND (power) "Power ground pins for both input and output returns.", G5 PGND (power) "Power ground pins for both input and output returns.", G6 PGND (power) "Power ground pins for both input and output returns.", G7 PGND (power) "Power ground pins for both input and output returns.", G8 PGND (power) "Power ground pins for both input and output returns.", G9 PGND (power) "Power ground pins for both input and output returns.", G10 PGND (power) "Power ground pins for both input and output returns.", G11 PGND (power) "Power ground pins for both input and output returns.", G12 PGND (power) "Power ground pins for both input and output returns.", H1 PGND (power) "Power ground pins for both input and output returns.", H2 PGND (power) "Power ground pins for both input and output returns.", H4 PGND (power) "Power ground pins for both input and output returns.", H6 SGND (power) "Signal Ground Pin. Return ground path for all analog and low power circuitry. Tie a single connection to PGND in the application.", H7 SGND (power) "Signal Ground Pin. Return ground path for all analog and low power circuitry. Tie a single connection to PGND in the application.", H9 PGND (power) "Power ground pins for both input and output returns.", H11 PGND (power) "Power ground pins for both input and output returns.", H12 PGND (power) "Power ground pins for both input and output returns.", J6 SGND (power) "Signal Ground Pin. Return ground path for all analog and low power circuitry. Tie a single connection to PGND in the application.", J7 SGND (power) "Signal Ground Pin. Return ground path for all analog and low power circuitry. Tie a single connection to PGND in the application."

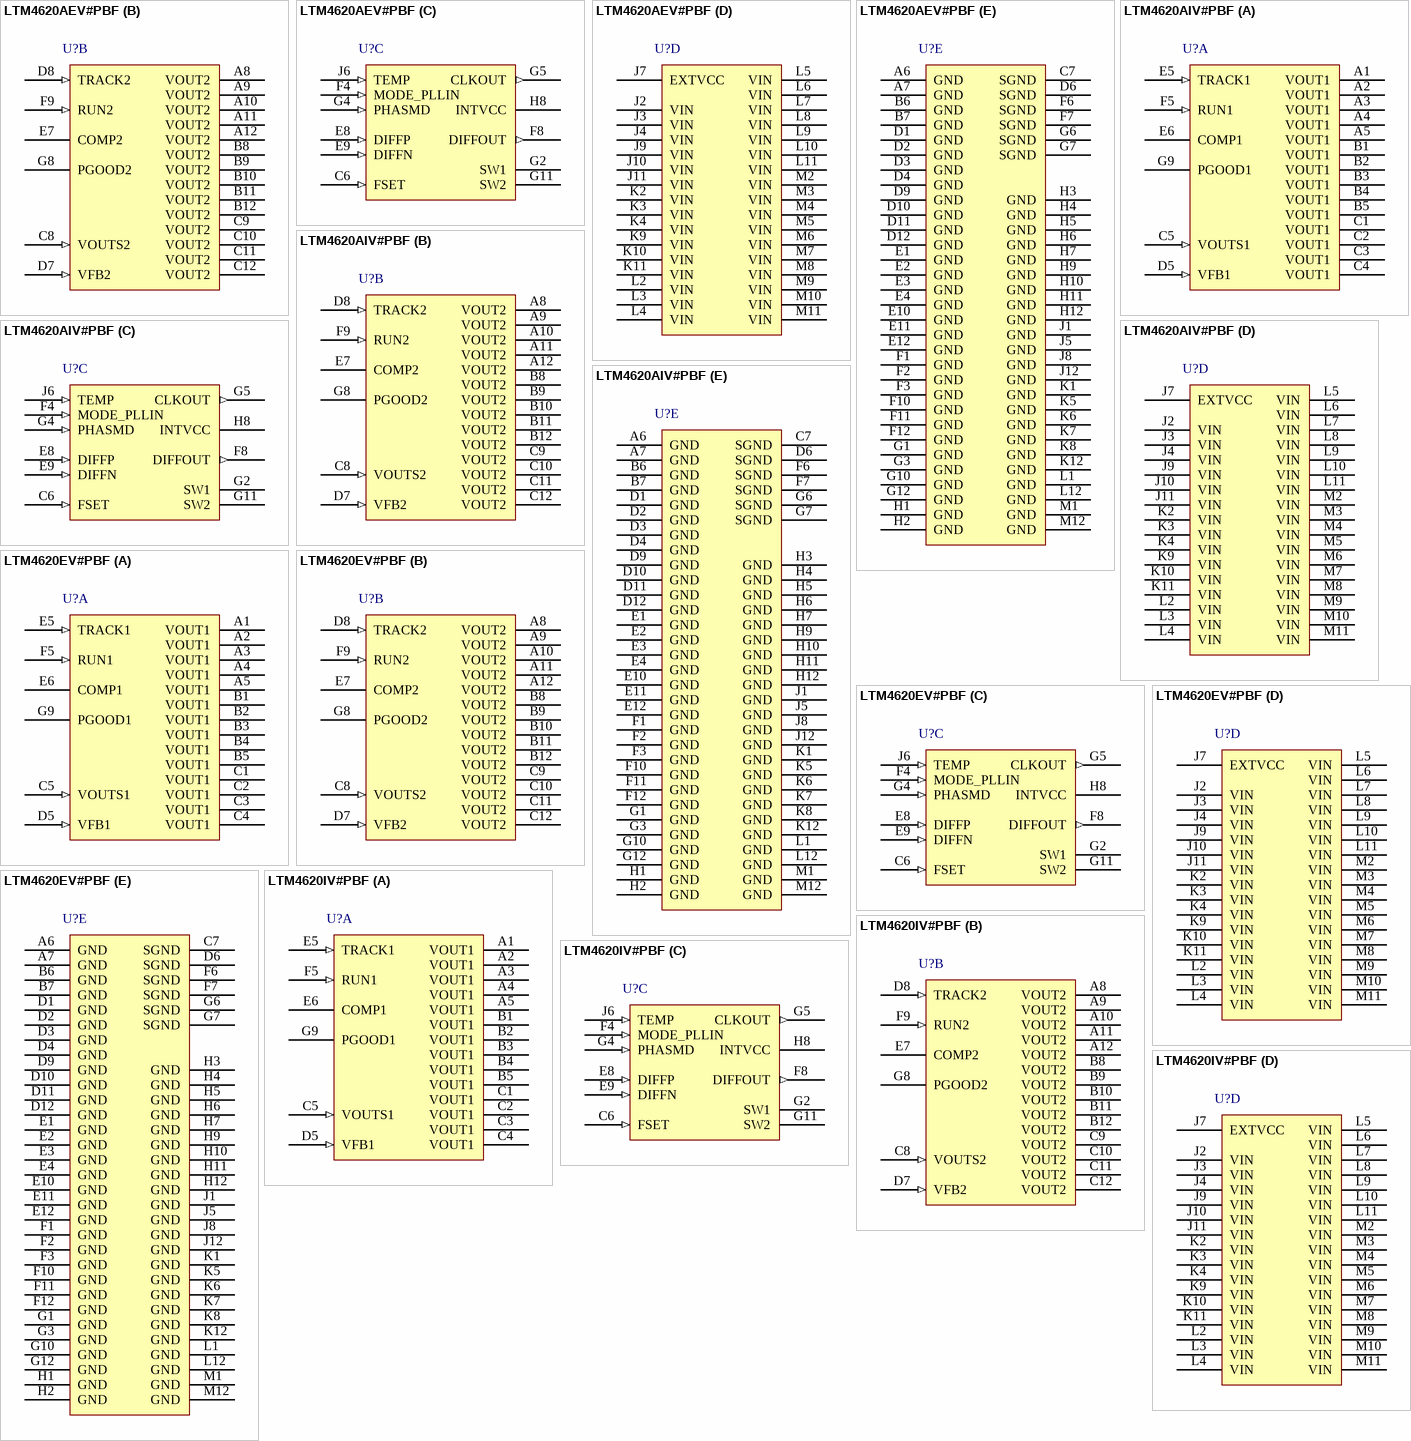
[diagram p16: symbols LTM4620AEV#PBF to LTM4620IV#PBF]